# Altium footprint library 74xx-us.PCBLIB: 32 footprints (part 1 of 2)
Each footprint in its own frame and in the unit in brackets; x right, y up, seen from the top. Pads: shape width x height; smd on the part's side, far side on the other; paste and mask are expansions set on the pad; w line width, h text height; cw(c..) or ccw(c..) is an arc to the next point about the centre after c.
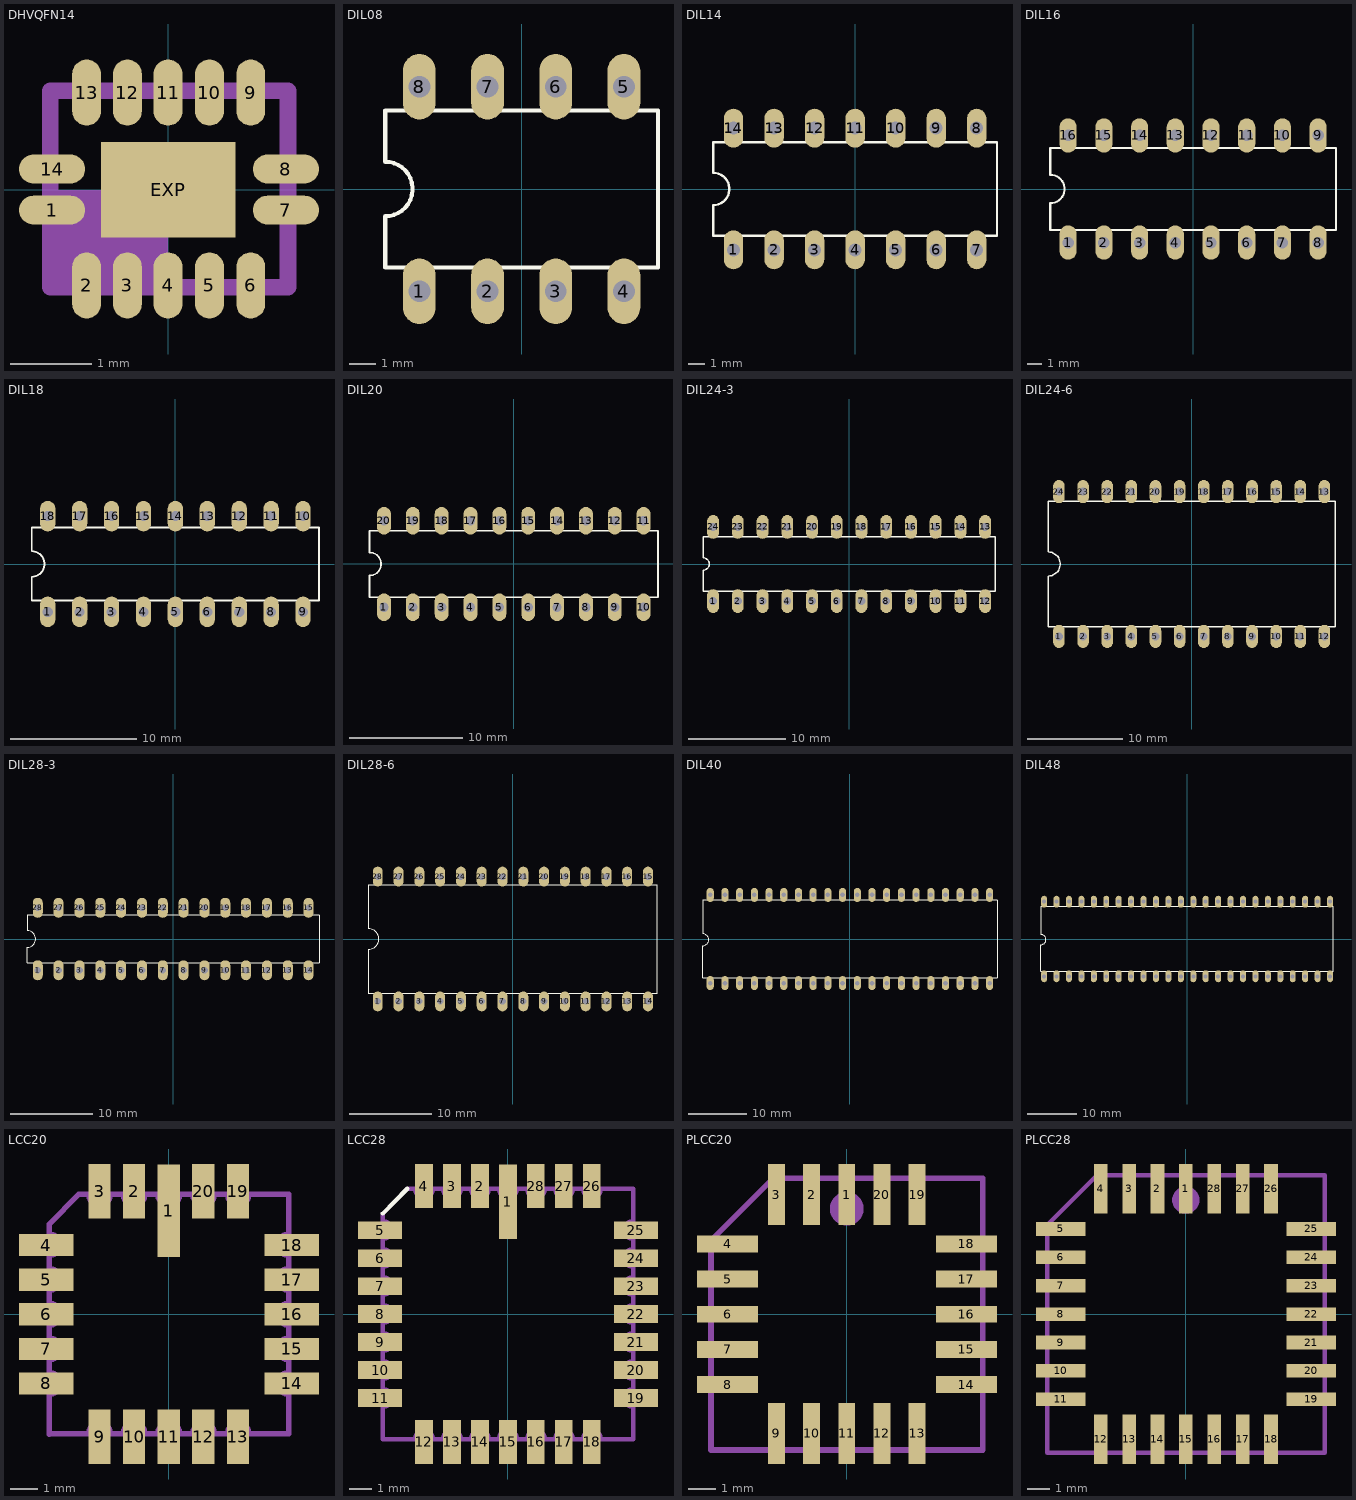
[diagram p0: the footprints below, top view; thin cyan lines are the x and y axes]

## DHVQFN14 [mil]
pads (15):
  rrect100% 32x14 smd: 1(-56.1,-9.84) 7(57,-9.84) 8(57,10) 14(-56.1,10)
  rrect100% 14x32 smd: 2(-39.37,-46.26) 3(-19.68,-46.26) 4(0,-46.26) 5(20,-46.26) 6(40,-46.26) 9(40,47) 10(20,47) 11(0,47) 12(-19.68,47) 13(-39.37,47)
  rect 65x46 smd: EXP(0,0)
Top Solder:
  rectangle: -34.45,-24.61 35,25
  lines w16: -64.96,-9.84 -47.24,-9.84 ; -64.96,10 -47.24,10 ; -39.37,-55.12 -39.37,-37.4 ; -39.37,38 -39.37,56 ; -19.68,-55.12 -19.68,-37.4 ; -19.68,38 -19.68,56 ; 0,-55.12 0,-37.4 ; 0,38 0,56 ; 20,-55.12 20,-37.4 ; 20,38 20,56 ; 40,-55.12 40,-37.4 ; 40,38 40,56 ; 48,-9.84 65,-9.84 ; 48,10 65,10
Mechanical 16:
  rectangle: -55.12,-45.28 0,0
  lines w8: -57.09,-47.24 -57.09,48 58,48 58,-47.24 -57.09,-47.24

## DIL08 [mil]
pads (8):
  oval 48x96 hole 32: 1(-150,-150) 2(-50,-150) 3(50,-150) 4(150,-150) 5(150,150) 6(50,150) 7(-50,150) 8(-150,150)
Top Overlay:
  lines w6: -200,-115 200,-115 200,115 -200,115 -200,40 cw(c-200,0) -200,-40 -200,-115

## DIL14 [mil]
pads (14):
  oval 48x96 hole 32: 1(-300,-150) 2(-200,-150) 3(-100,-150) 4(0,-150) 5(100,-150) 6(200,-150) 7(300,-150) 8(300,150) 9(200,150) 10(100,150) 11(0,150) 12(-100,150) 13(-200,150) 14(-300,150)
Top Overlay:
  lines w6: -350,-115 350,-115 350,115 -350,115 -350,40 cw(c-350,0) -350,-40 -350,-115

## DIL16 [mil]
pads (16):
  oval 48x96 hole 32: 1(-350,-150) 2(-250,-150) 3(-150,-150) 4(-50,-150) 5(50,-150) 6(150,-150) 7(250,-150) 8(350,-150) 9(350,150) 10(250,150) 11(150,150) 12(50,150) 13(-50,150) 14(-150,150) 15(-250,150) 16(-350,150)
Top Overlay:
  lines w6: -400,-115 400,-115 400,115 -400,115 -400,40 cw(c-400,0) -400,-40 -400,-115

## DIL18 [mil]
pads (18):
  oval 48x96 hole 32: 1(-400,-150) 2(-300,-150) 3(-200,-150) 4(-100,-150) 5(0,-150) 6(100,-150) 7(200,-150) 8(300,-150) 9(400,-150) 10(400,150) 11(300,150) 12(200,150) 13(100,150) 14(0,150) 15(-100,150) 16(-200,150) 17(-300,150) 18(-400,150)
Top Overlay:
  lines w6: -450,-115 450,-115 450,115 -450,115 -450,40 cw(c-450,0) -450,-40 -450,-115

## DIL20 [mil]
pads (20):
  oval 48x96 hole 32: 1(-450,-150) 2(-350,-150) 3(-250,-150) 4(-150,-150) 5(-50,-150) 6(50,-150) 7(150,-150) 8(250,-150) 9(350,-150) 10(450,-150) 11(450,150) 12(350,150) 13(250,150) 14(150,150) 15(50,150) 16(-50,150) 17(-150,150) 18(-250,150) 19(-350,150) 20(-450,150)
Top Overlay:
  lines w6: -500,-115 500,-115 500,115 -500,115 -500,40 cw(c-500,0) -500,-40 -500,-115

## DIL24-3 [mil]
pads (24):
  oval 48x96 hole 32: 1(-550,-150) 2(-450,-150) 3(-350,-150) 4(-250,-150) 5(-150,-150) 6(-50,-150) 7(50,-150) 8(150,-150) 9(250,-150) 10(350,-150) 11(450,-150) 12(550,-150) 13(550,150) 14(450,150) 15(350,150) 16(250,150) 17(150,150) 18(50,150) 19(-50,150) 20(-150,150) 21(-250,150) 22(-350,150) 23(-450,150) 24(-550,150)
Top Overlay:
  lines w6: -590,-110 -590,-25 ccw(c-590,0) -590,25 -590,110 590,110 590,-110 -590,-110

## DIL24-6 [mil]
pads (24):
  oval 48x96 hole 32: 1(-550,-300) 2(-450,-300) 3(-350,-300) 4(-250,-300) 5(-150,-300) 6(-50,-300) 7(50,-300) 8(150,-300) 9(250,-300) 10(350,-300) 11(450,-300) 12(550,-300) 13(550,300) 14(450,300) 15(350,300) 16(250,300) 17(150,300) 18(50,300) 19(-50,300) 20(-150,300) 21(-250,300) 22(-350,300) 23(-450,300) 24(-550,300)
Top Overlay:
  lines w6: -595,-260 -595,-50 ccw(c-595,0) -595,50 -595,260 595,260 595,-260 -595,-260

## DIL28-3 [mil]
pads (28):
  oval 48x96 hole 32: 1(-650,-150) 2(-550,-150) 3(-450,-150) 4(-350,-150) 5(-250,-150) 6(-150,-150) 7(-50,-150) 8(50,-150) 9(150,-150) 10(250,-150) 11(350,-150) 12(450,-150) 13(550,-150) 14(650,-150) 15(650,150) 16(550,150) 17(450,150) 18(350,150) 19(250,150) 20(150,150) 21(50,150) 22(-50,150) 23(-150,150) 24(-250,150) 25(-350,150) 26(-450,150) 27(-550,150) 28(-650,150)
Top Overlay:
  lines w6: -700,-115 700,-115 700,115 -700,115 -700,40 cw(c-700,0) -700,-40 -700,-115

## DIL28-6 [mil]
pads (28):
  oval 48x96 hole 32: 1(-650,-300) 2(-550,-300) 3(-450,-300) 4(-350,-300) 5(-250,-300) 6(-150,-300) 7(-50,-300) 8(50,-300) 9(150,-300) 10(250,-300) 11(350,-300) 12(450,-300) 13(550,-300) 14(650,-300) 15(650,300) 16(550,300) 17(450,300) 18(350,300) 19(250,300) 20(150,300) 21(50,300) 22(-50,300) 23(-150,300) 24(-250,300) 25(-350,300) 26(-450,300) 27(-550,300) 28(-650,300)
Top Overlay:
  lines w6: -695,-260 -695,-50 ccw(c-695,0) -695,50 -695,260 695,260 695,-260 -695,-260

## DIL40 [mil]
pads (40):
  oval 48x96 hole 32: 1(-950,-300) 2(-850,-300) 3(-750,-300) 4(-650,-300) 5(-550,-300) 6(-450,-300) 7(-350,-300) 8(-250,-300) 9(-150,-300) 10(-50,-300) 11(50,-300) 12(150,-300) 13(250,-300) 14(350,-300) 15(450,-300) 16(550,-300) 17(650,-300) 18(750,-300) 19(850,-300) 20(950,-300) 21(950,300) 22(850,300) 23(750,300) 24(650,300) 25(550,300) 26(450,300) 27(350,300) 28(250,300) 29(150,300) 30(50,300) 31(-50,300) 32(-150,300) 33(-250,300) 34(-350,300) 35(-450,300) 36(-550,300) 37(-650,300) 38(-750,300) 39(-850,300) 40(-950,300)
Top Overlay:
  lines w6: -1000,-265 1000,-265 1000,265 -1000,265 -1000,35 cw(c-1000,-5) -1000,-45 -1000,-265

## DIL48 [mil]
pads (48):
  oval 48x96 hole 32: 1(-1150,-300) 2(-1050,-300) 3(-950,-300) 4(-850,-300) 5(-750,-300) 6(-650,-300) 7(-550,-300) 8(-450,-300) 9(-350,-300) 10(-250,-300) 11(-150,-300) 12(-50,-300) 13(50,-300) 14(150,-300) 15(250,-300) 16(350,-300) 17(450,-300) 18(550,-300) 19(650,-300) 20(750,-300) 21(850,-300) 22(950,-300) 23(1050,-300) 24(1150,-300) 25(1150,300) 26(1050,300) 27(950,300) 28(850,300) 29(750,300) 30(650,300) 31(550,300) 32(450,300) 33(350,300) 34(250,300) 35(150,300) 36(50,300) 37(-50,300) 38(-150,300) 39(-250,300) 40(-350,300) 41(-450,300) 42(-550,300) 43(-650,300) 44(-750,300) 45(-850,300) 46(-950,300) 47(-1050,300) 48(-1150,300)
Top Overlay:
  lines w6: -1175,-260 1175,-260 1175,260 -1175,260 -1175,35 cw(c-1175,-5) -1175,-45 -1175,-260

## LCC20 [mil]
pads (20):
  rect 32x134 smd: 1(0,150)
  rect 32x79 smd: 2(-50,178) 3(-100,178) 9(-100,-177.17) 10(-50,-177.17) 11(0,-177.17) 12(50,-177.17) 13(100,-177.17) 19(100,178) 20(50,178)
  rect 79x32 smd: 4(-177.17,100) 5(-177.17,50) 6(-177.17,0) 7(-177.17,-50) 8(-177.17,-100) 14(178,-100) 15(178,-50) 16(178,0) 17(178,50) 18(178,100)
Mechanical 16:
  lines w8: -173.23,-173.62 -173.23,-173.23 ; -173.23,-115.75 -173.23,-173.23 ; -173.23,-84.25 -173.23,-65.75 ; -173.23,-34.25 -173.23,-15.75 ; -173.23,16 -173.23,35 ; -173.23,66 -173.23,85 ; -173.23,116 -173.23,130 -129.92,174 -115.75,174 ccw(c-100,174) -84.25,174 -65.75,174 ccw(c-50,174) -34.25,174 -15.75,174 ccw(c0.12,174) 16,174 35,174 ccw(c50.5,174) 66,174 85,174 ccw(c100.5,174) 116,174 174,174 174,116 ccw(c174,100.5) 174,85 174,66 ccw(c174,50.5) 174,35 174,16 ccw(c174,0.12) 174,-15.75 174,-34.25 ccw(c174,-50) 174,-65.75 174,-84.25 ccw(c174,-100) 174,-115.75 174,-173.23 116,-173.23 ; -173.17,-115.75 ccw(c-173.17,-100) -173.17,-84.25 ; -173.17,-65.75 ccw(c-173.17,-50) -173.17,-34.25 ; -173.17,-15.75 ccw(c-173.17,0.12) -173.17,16 ; -173.17,35 ccw(c-173.17,50.5) -173.17,66 ; -173.17,85 ccw(c-173.17,100.5) -173.17,116 ; -115.75,-173.23 -173.23,-173.23 ; -115.75,-173.17 cw(c-100,-173.17) -84.25,-173.17 ; -84.25,-173.23 -65.75,-173.23 ; -65.75,-173.17 cw(c-50,-173.17) -34.25,-173.17 ; -34.25,-173.23 -15.75,-173.23 ; -15.75,-173.17 cw(c0.12,-173.17) 16,-173.17 ; 16,-173.23 35,-173.23 ; 35,-173.17 cw(c50.5,-173.17) 66,-173.17 ; 66,-173.23 85,-173.23 ; 85,-173.17 cw(c100.5,-173.17) 116,-173.17

## LCC28 [mil]
pads (28):
  rect 32x134 smd: 1(0,201)
  rect 32x79 smd: 2(-50,229) 3(-100,229) 4(-150,229) 12(-150,-228.35) 13(-100,-228.35) 14(-50,-228.35) 15(0,-228.35) 16(50,-228.35) 17(100,-228.35) 18(150,-228.35) 26(150,229) 27(100,229) 28(50,229)
  rect 79x32 smd: 5(-228.35,150) 6(-228.35,100) 7(-228.35,50) 8(-228.35,0) 9(-228.35,-50) 10(-228.35,-100) 11(-228.35,-150) 19(229,-150) 20(229,-100) 21(229,-50) 22(229,0) 23(229,50) 24(229,100) 25(229,150)
Top Overlay:
  lines w8: -223.23,180 -179.92,224
Mechanical 16:
  lines w8: -223.23,-165.75 -223.23,-223.23 -165,-223.23 ; -223.23,-134.25 -223.23,-115.75 ; -223.23,-84.25 -223.23,-65.75 ; -223.23,-34.25 -223.23,-15.75 ; -223.23,16 -223.23,35 ; -223.23,66 -223.23,85 ; -223.23,116 -223.23,135 ; -223.23,166 -223.23,180 ; -223.17,-165.75 ccw(c-223.17,-150) -223.17,-134.25 ; -223.17,-115.75 ccw(c-223.17,-100) -223.17,-84.25 ; -223.17,-65.75 ccw(c-223.17,-50) -223.17,-34.25 ; -223.17,-15.75 ccw(c-223.17,0.12) -223.17,16 ; -223.17,35 ccw(c-223.17,50.5) -223.17,66 ; -223.17,85 ccw(c-223.17,100.5) -223.17,116 ; -223.17,135 ccw(c-223.17,150.5) -223.17,166 ; -179.92,224 -165.75,224 ccw(c-150,224) -134.25,224 -115.75,224 ccw(c-100,224) -84.25,224 -65.75,224 ccw(c-50,224) -34.25,224 -15.75,224 ccw(c0.12,224) 16,224 35,224 ccw(c50.5,224) 66,224 85,224 ccw(c100.5,224) 116,224 135,224 ccw(c150.5,224) 166,224 224,224 224,166 ccw(c224,150.5) 224,135 224,116 ccw(c224,100.5) 224,85 224,66 ccw(c224,50.5) 224,35 224,16 ccw(c224,0.12) 224,-15.75 224,-34.25 ccw(c224,-50) 224,-65.75 224,-84.25 ccw(c224,-100) 224,-115.75 224,-134.25 ccw(c224,-150) 224,-165.75 224,-223.23 166,-223.23 ; -165.75,-223.17 cw(c-150,-223.17) -134.25,-223.17 ; -135,-223.23 -115.75,-223.23 ; -115.75,-223.17 cw(c-100,-223.17) -84.25,-223.17 ; -84.25,-223.23 -65.75,-223.23 ; -65.75,-223.17 cw(c-50,-223.17) -34.25,-223.17 ; -34.25,-223.23 -15.75,-223.23 ; -15.75,-223.17 cw(c0.12,-223.17) 16,-223.17 ; 16,-223.23 35,-223.23 ; 35,-223.17 cw(c50.5,-223.17) 66,-223.17 ; 66,-223.23 85,-223.23 ; 85,-223.17 cw(c100.5,-223.17) 116,-223.17 ; 116,-223.23 135,-223.23 ; 135,-223.17 cw(c150.5,-223.17) 166,-223.17

## PLCC20 [mil]
pads (20):
  rect 24x87 smd: 1(0,170) 2(-50,170) 3(-100,170) 9(-100,-169.29) 10(-50,-169.29) 11(0,-169.29) 12(50,-169.29) 13(100,-169.29) 19(100,170) 20(50,170)
  rect 87x24 smd: 4(-169.29,100) 5(-169.29,50) 6(-169.29,0) 7(-169.29,-50) 8(-169.29,-100) 14(170,-100) 15(170,-50) 16(170,0) 17(170,50) 18(170,100)
Mechanical 16:
  circle w24: c0,150 r12
  rectangle: -10.24,195 11,213
  rectangle: -60.24,195 -39.76,213
  rectangle: -110.24,195 -89.76,213
  rectangle: -212.6,90 -194.88,111
  rectangle: -212.6,40 -194.88,61
  rectangle: -212.6,-10.24 -194.88,11
  rectangle: -212.6,-60.24 -194.88,-39.76
  rectangle: -212.6,-110.24 -194.88,-89.76
  rectangle: -110.24,-212.6 -89.76,-194.88
  rectangle: -60.24,-212.6 -39.76,-194.88
  rectangle: -10.24,-212.6 11,-194.88
  rectangle: 40,-212.6 61,-194.88
  rectangle: 90,-212.6 111,-194.88
  rectangle: 195,-110.24 213,-89.76
  rectangle: 195,-60.24 213,-39.76
  rectangle: 195,-10.24 213,11
  rectangle: 195,40 213,61
  rectangle: 195,90 213,111
  rectangle: 90,195 111,213
  rectangle: 40,195 61,213
  lines w8: -192.91,-192.91 -192.91,105 -104.92,193 193,193 193,-192.91 -192.91,-192.91

## PLCC28 [mil]
pads (28):
  rect 24x87 smd: 1(0,221) 2(-50,221) 3(-100,221) 4(-150,221) 12(-150,-220.47) 13(-100,-220.47) 14(-50,-220.47) 15(0,-220.47) 16(50,-220.47) 17(100,-220.47) 18(150,-220.47) 26(150,221) 27(100,221) 28(50,221)
  rect 87x24 smd: 5(-220.47,150) 6(-220.47,100) 7(-220.47,50) 8(-220.47,0) 9(-220.47,-50) 10(-220.47,-100) 11(-220.47,-150) 19(221,-150) 20(221,-100) 21(221,-50) 22(221,0) 23(221,50) 24(221,100) 25(221,150)
Mechanical 16:
  circle w24: c0,201 r12
  rectangle: -10.24,247 11,264
  rectangle: -60.24,247 -39.76,264
  rectangle: -110.24,247 -89.76,264
  rectangle: -160.24,247 -139.76,264
  rectangle: -263.78,140 -246.06,161
  rectangle: -263.78,90 -246.06,111
  rectangle: -263.78,40 -246.06,61
  rectangle: -263.78,-10.24 -246.06,11
  rectangle: -263.78,-60.24 -246.06,-39.76
  rectangle: -263.78,-110.24 -246.06,-89.76
  rectangle: -263.78,-160.24 -246.06,-139.76
  rectangle: -160.24,-263.78 -139.76,-246.06
  rectangle: -110.24,-263.78 -89.76,-246.06
  rectangle: -60.24,-263.78 -39.76,-246.06
  rectangle: -10.24,-263.78 11,-246.06
  rectangle: 40,-263.78 61,-246.06
  rectangle: 90,-263.78 111,-246.06
  rectangle: 140,-263.78 161,-246.06
  rectangle: 247,-160.24 264,-139.76
  rectangle: 247,-110.24 264,-89.76
  rectangle: 247,-60.24 264,-39.76
  rectangle: 247,-10.24 264,11
  rectangle: 247,40 264,61
  rectangle: 247,90 264,111
  rectangle: 247,140 264,161
  rectangle: 140,247 161,264
  rectangle: 90,247 111,264
  rectangle: 40,247 61,264
  lines w8: -244.09,-244.09 -244.09,157 -156.1,245 245,245 245,-244.09 -244.09,-244.09